# EAGLE library part MOSFET-P-N-PAIR (library system-controller)
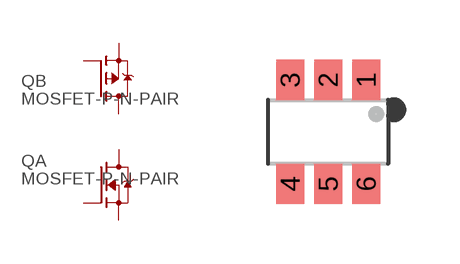
[diagram p3: symbol with the pads of SOT23-6; footprint SOT23-6]

Designator prefix Q; gates A=N-MOSFET B=P-MOSFET

## MOSFET-P-N-PAIR  [SOT23-6]
1  A:G  pas
2  B:S  pas
3  B:G  pas
4  B:D  pas
5  A:S  pas
6  A:D  pas

## Footprint SOT23-6 (pad centres in mm)
SOT23-6 Small Outline Transistor, standard 6-pin package
smd 0.7 x 1: 1 0.95,1.3; 2 0,1.3; 3 -0.95,1.3; 4 -0.95,-1.3; 5 0,-1.3; 6 0.95,-1.3